# Altium footprint library NX3225GA-25P000M-STD-CRG-2.PcbLib: 1 footprints
Each footprint in its own frame and in the unit in brackets; x right, y up, seen from the top. Pads: shape width x height; smd on the part's side, far side on the other; paste and mask are expansions set on the pad; w line width, h text height; cw(c..) or ccw(c..) is an arc to the next point about the centre after c.
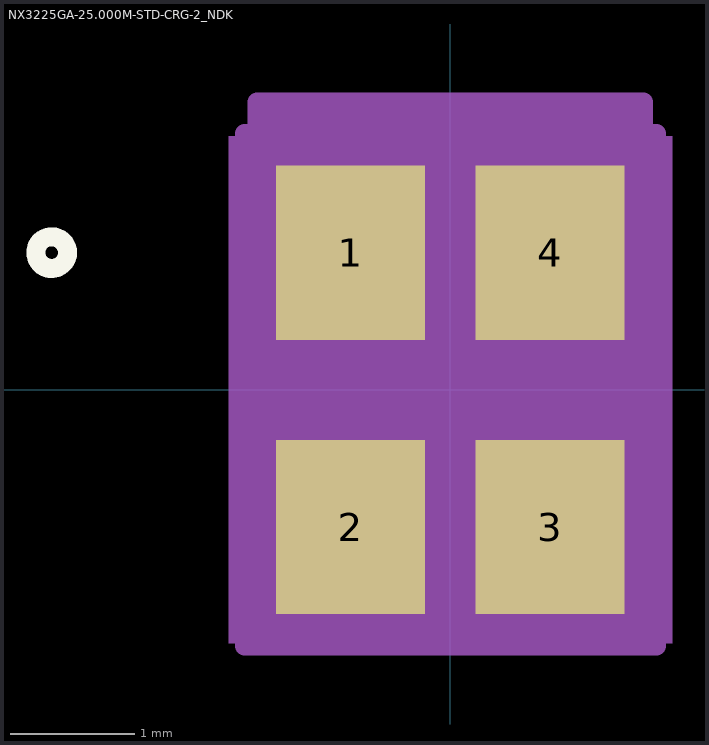
[diagram p0: the footprint, top view; thin cyan lines are the x and y axes]

## NX3225GA-25.000M-STD-CRG-2_NDK [mm]
pads (4):
  rect 1.194x1.397 smd paste-0.597 mask+0: 1(-0.8,1.1) 2(-0.8,-1.1) 3(0.8,-1.1) 4(0.8,1.1)
Top Overlay:
  circle w0.152: c-3.195,1.1 r0.127
Mechanical 5:
  region: 1.778,-2.032 -1.778,-2.032 -1.778,2.032 1.778,2.032
Mechanical 13:
  circle w0: c-0.203,1.1 r0.076
  lines w0: -0.305,1.651 ccw(c0,1.651) 0.305,1.651
  lines w0.025: -1.295,-1.651 1.295,-1.651 1.295,1.651 -1.295,1.651 -1.295,-1.651
Mechanical 15:
  region: -1.549,-2.053 -1.651,-2.053 -1.651,2.053 -1.549,2.053 -1.549,2.307 1.549,2.307 1.549,2.053 1.651,2.053 1.651,-2.053 1.549,-2.053
  lines w0.152: -1.549,-2.053 -1.651,-2.053 -1.651,2.053 -1.549,2.053 -1.549,2.307 1.549,2.307 1.549,2.053 1.651,2.053 1.651,-2.053 1.549,-2.053 ; -1.549,-2.053 -1.549,-2.053 ; -1.549,-2.053 1.549,-2.053 ; 1.549,-2.053 1.549,-2.053
3D body: height 0.25, standoff 0, extent 0,0 0.254,0.254